# Altium footprint library ResonatorCrystal.PcbLib: 10 footprints
Each footprint in its own frame and in the unit in brackets; x right, y up, seen from the top. Pads: shape width x height; smd on the part's side, far side on the other; paste and mask are expansions set on the pad; w line width, h text height; cw(c..) or ccw(c..) is an arc to the next point about the centre after c.
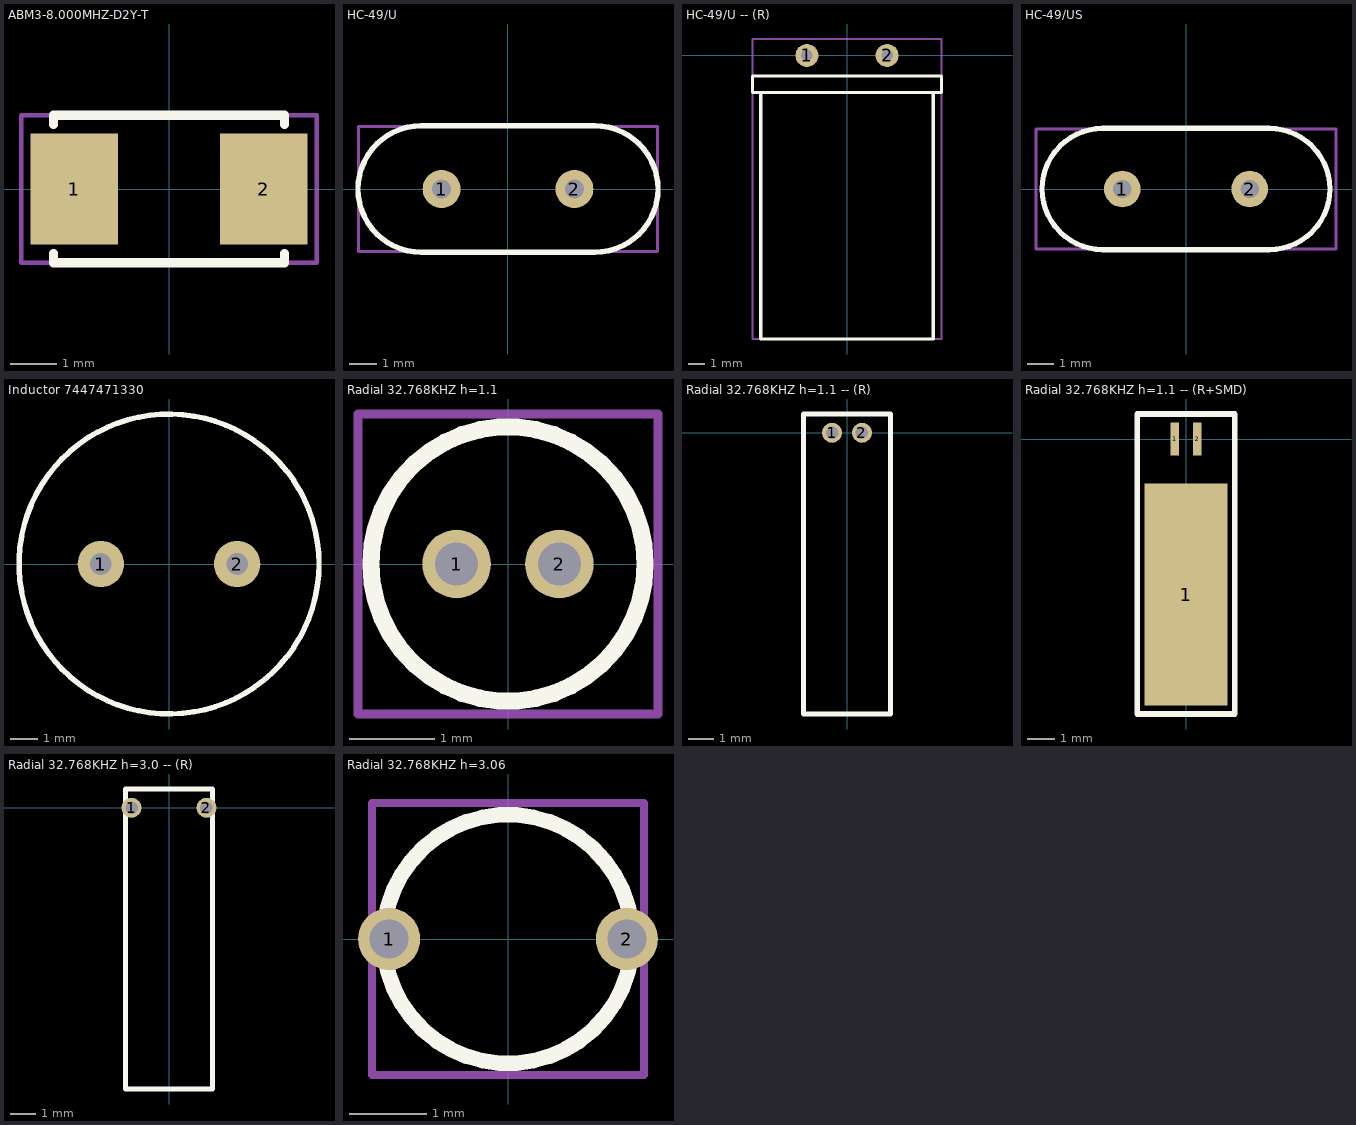
[diagram p0: the footprints below, top view; thin cyan lines are the x and y axes]

## ABM3-8.000MHZ-D2Y-T [mm]
pads (2):
  rect 1.9x2.4 smd: 1(-2.05,0) 2(2.05,0)
Top Overlay:
  lines w0.2: -2.5,-1.4 -2.5,-1.6 2.5,-1.6 2.5,-1.4 ; -2.5,1.4 -2.5,1.6 2.5,1.6 2.5,1.4
Border:
  lines w0.1: -3.2,-1.6 -3.2,1.6 3.2,1.6 3.2,-1.6 -3.2,-1.6
3D body "User Library-ABM3.STEP": height 1.3, standoff 0, extent -2.6,-1.7 2.6,1.7

## HC-49/U [mm]
pads (2):
  round 1.4 hole 0.7: 1(-2.44,0) 2(2.44,0)
Top Overlay:
  lines w0.2: -3.19,-2.325 cw(c-3.19,0) -3.19,2.325 3.19,2.325 cw(c3.19,0) 3.19,-2.325 -3.19,-2.325
Border:
  lines w0.1: -5.5,-2.3 5.5,-2.3 5.5,2.3 -5.5,2.3 -5.5,-2.3
3D body "User Library-HC49U-1.STEP": height 13.6, standoff -2.9, extent -5.49,-2.25 5.49,2.241

## HC-49/U -- (R) [mm]
pads (2):
  round 1.4 hole 0.7: 1(-2.44,0) 2(2.44,0)
Top Overlay:
  lines w0.2: -5.25,-2.25 -5.25,-17.25 5.25,-17.25 5.25,-2.25 ; -5.75,-2.25 5.75,-2.25 5.75,-1.25 -5.75,-1.25 -5.75,-2.25
Border:
  lines w0.1: -5.75,-17.25 -5.75,1 5.75,1 5.75,-17.25 -5.75,-17.25
3D body "User Library-XTAL02.STEP": height 4.75, standoff -3.5, extent -5.75,-17.3 5.75,0.25

## HC-49/US [mm]
pads (2):
  round 1.4 hole 0.7: 1(-2.44,0) 2(2.44,0)
Top Overlay:
  lines w0.2: -3.19,-2.325 cw(c-3.19,0) -3.19,2.325 3.19,2.325 cw(c3.19,0) 3.19,-2.325 -3.19,-2.325
Border:
  lines w0.1: -5.75,-2.3 -5.75,2.3 5.75,2.3 5.75,-2.3 -5.75,-2.3
3D body "User Library-HC-49_LT_THT.sldprt": height 3.7, standoff -1.89, extent -5.675,-2.325 5.675,2.325

## Inductor 7447471330 [mm]
pads (2):
  round 1.7 hole 0.8: 1(-2.5,0) 2(2.5,0)
Top Overlay:
  circle w0.2: c0,0 r5.5
Border:
  circle w0.1: c0,0 r5.5
3D body "Inductor 7447471330.stp": height 12, standoff -3.5, extent -5.5,-5.5 5.5,5.5

## Radial 32.768KHZ h=1.1 [mm]
pads (2):
  round 0.8 hole 0.5: 1(-0.6,0) 2(0.6,0)
Top Overlay:
  circle w0.2: c0,0 r1.6
Border:
  lines w0.1: -1.75,-1.75 1.75,-1.75 1.75,1.75 -1.75,1.75 -1.75,-1.75
3D body "Кварцевый резонатор d3.2xH8.3xd1.1.stp": height 8.8, standoff -3.5, extent -1.6,-1.597 1.6,1.597

## Radial 32.768KHZ h=1.1 -- (R) [mm]
pads (2):
  round 0.8 hole 0.5: 1(-0.6,0) 2(0.6,0)
Top Overlay:
  lines w0.2: -1.75,-11.25 -1.75,0.75 1.75,0.75 1.75,-11.25 -1.75,-11.25
Border:
  lines w0.1: -1.75,-11.25 -1.75,0.75 1.75,0.75 1.75,-11.25 -1.75,-11.25
3D body "Кварцевый резонатор угловой d3.2xH8.3xd1.1.stp": height 3.3, standoff -3, extent -1.6,-11.3 1.6,0.175

## Radial 32.768KHZ h=1.1 -- (R+SMD) [mm]
pads (3):
  rect 0.3x1.2 smd: 1(-0.4,0) 2(0.4,0)
  rect 3x8 smd: 1(0,-5.6)
Top Overlay:
  lines w0.2: -1.75,-9.9 -1.75,0.9 1.75,0.9 1.75,-9.9 -1.75,-9.9
Border:
  lines w0.1: -1.75,-9.9 -1.75,0.9 1.75,0.9 1.75,-9.9 -1.75,-9.9
3D body "Кварцевый резонатор угловой d3.2xH8.3xd1.1 SMD.stp": height 3.3, standoff 0, extent -1.6,-9.5 1.6,0.5

## Radial 32.768KHZ h=3.0 -- (R) [mm]
pads (2):
  round 0.8 hole 0.5: 1(-1.5,0) 2(1.5,0)
Top Overlay:
  lines w0.2: -1.75,-11.25 1.75,-11.25 1.75,0.75 -1.75,0.75 -1.75,-11.25
Border:
  lines w0.1: -1.75,-11.25 1.75,-11.25 1.75,0.75 -1.75,0.75 -1.75,-11.25
3D body "Кварцевый резонатор угловой d3.2xH8.3xd3.stp": height 3.3, standoff -3, extent -1.674,-11.3 1.674,0.175

## Radial 32.768KHZ h=3.06 [mm]
pads (2):
  round 0.8 hole 0.5: 1(-1.53,0) 2(1.53,0)
Top Overlay:
  circle w0.2: c0,0 r1.6
Border:
  lines w0.1: -1.75,-1.75 1.75,-1.75 1.75,1.75 -1.75,1.75 -1.75,-1.75
3D body "User Library-Crystal TH.sldprt": height 9.28, standoff -1.5, extent -1.725,-1.6 1.725,1.6